# Altium footprint library Theremin_Project1.PcbLib: 37 footprints (part 2 of 3)
Each footprint in its own frame and in the unit in brackets; x right, y up, seen from the top. Pads: shape width x height; smd on the part's side, far side on the other; paste and mask are expansions set on the pad; w line width, h text height; cw(c..) or ccw(c..) is an arc to the next point about the centre after c.
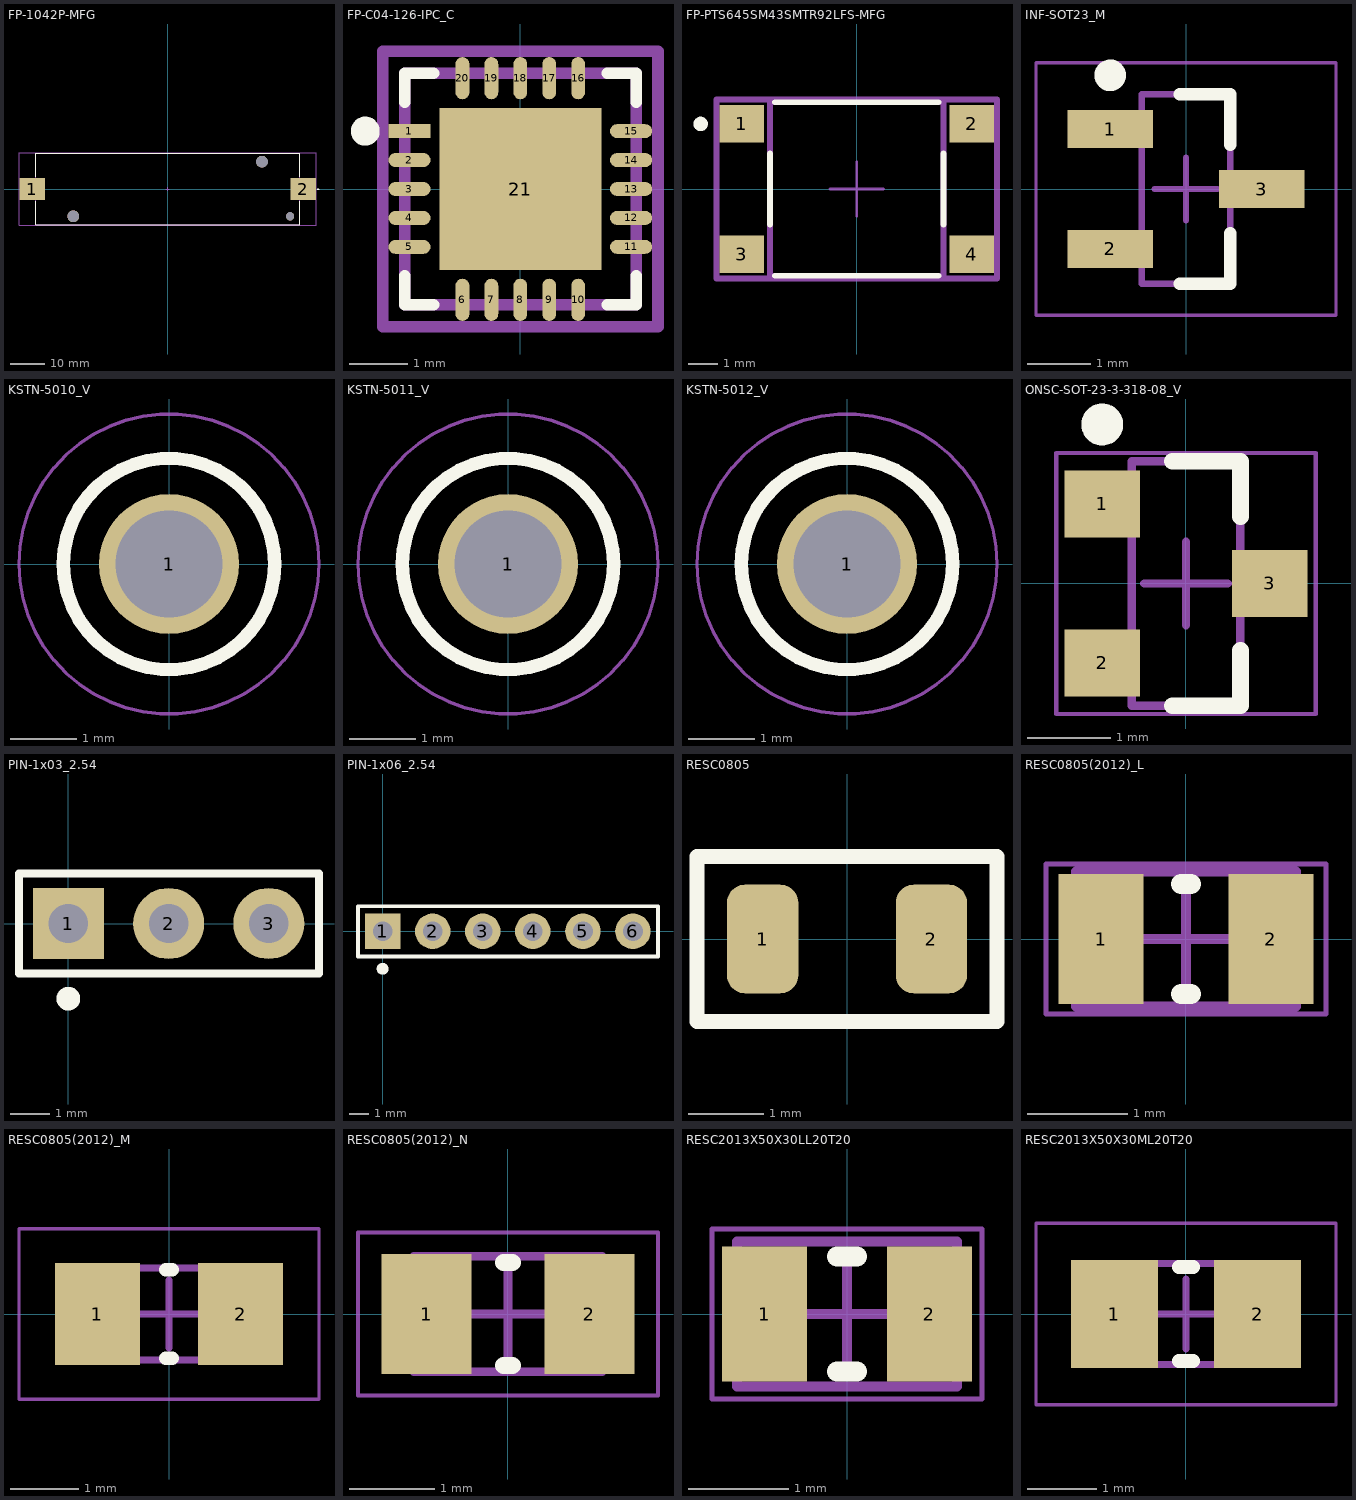
[diagram p1: the footprints below, top view; thin cyan lines are the x and y axes]

## FP-1042P-MFG [mil]
pads (5):
  rect 294x255 smd paste+0 mask+0: 1(-1562.5,0) 2(1562.5,0)
  round 135.83 hole 135.83 unplated paste-39370.1 mask+0: ""(-1087.5,-315) ""(1087.5,315)
  round 94 hole 94 unplated paste-39370.1 mask+0: ""(1411.5,-315)
Top Overlay:
  lines w7.87: -1522,-142.13 -1522,-411.5 1522,-411.5 1522,-142.13 ; -1522,142.13 -1522,411.5 1522,411.5 1522,142.13 ; 1725.39,0 1745.08,0 ; 1735.24,-9.84 1735.24,9.84
Top 3D Body:
  lines w7.87: -1522,-411.5 1522,-411.5 1522,411.5 -1522,411.5 -1522,-411.5
Top Component Center:
  lines w3.94: -19.68,0 19.68,0 ; 0,-19.68 0,19.68
Top Courtyard:
  lines w7.87: -1713.44,-415.44 1713.44,-415.44 1713.44,415.44 -1713.44,415.44 -1713.44,-415.44
Top Assembly:
  lines w7.87: -1713.44,-415.44 1713.44,-415.44 1713.44,415.44 -1713.44,415.44 -1713.44,-415.44
  text ".Designator" at 0,0 h39.37
3D body "Batt_Keystone_1042P_eec.STEP": height 594.88, standoff -135, extent -1692.99,-406.54 1693.01,406.5
3D body "Sanjo NCR18650GA.SLDPRT": height 714.17, standoff -14.17, extent -1230,-363.85 1340.87,363.84

## FP-C04-126-IPC_C [mm]
pads (21):
  rect 0.729x0.239 smd paste+0 mask+0: 1(-1.915,1)
  rrect100% 0.729x0.239 smd paste+0 mask+0: 2(-1.915,0.5) 3(-1.915,0) 4(-1.915,-0.5) 5(-1.915,-1) 11(1.915,-1) 12(1.915,-0.5) 13(1.915,0) 14(1.915,0.5) 15(1.915,1)
  rrect100% 0.239x0.729 smd paste+0 mask+0: 6(-1,-1.915) 7(-0.5,-1.915) 8(0,-1.915) 9(0.5,-1.915) 10(1,-1.915) 16(1,1.915) 17(0.5,1.915) 18(0,1.915) 19(-0.5,1.915) 20(-1,1.915)
  rect 2.8x2.8 smd paste-1000 mask+0: 21(0,0)
Top Overlay:
  circle w0.25: c-2.679,1 r0.125
  lines w0.2: -2,-1.5 -2,-2 -1.5,-2 ; -2,1.5 -2,2 -1.5,2 ; 1.5,-2 2,-2 2,-1.5 ; 1.5,2 2,2 2,1.5
Top Paste:
  rectangle: -0.885,-0.885 0.885,0.885
Top 3D Body:
  lines w0.2: -2,-2 -2,2 2,2 2,-2 -2,-2
Top Component Center:
  lines w0.1: -0.5,0 0.5,0 ; 0,-0.5 0,0.5
Top Courtyard:
  lines w0.2: -2.379,-2.379 -2.379,2.379 2.379,2.379 2.379,-2.379 -2.379,-2.379
Top Assembly:
  lines w0.2: -2.379,-2.379 -2.379,2.379 2.379,2.379 2.379,-2.379 -2.379,-2.379
  text ".Designator" at 0,0.188 h1
3D body "IC_Microchip_MCP2515T-I-ML_eec.STEP": height 1, standoff 0, extent -2,-2 2,2

## FP-PTS645SM43SMTR92LFS-MFG [mm]
pads (4):
  rect 1.55x1.3 smd paste+0 mask+0: 1(-3.975,2.25) 2(3.975,2.25) 3(-3.975,-2.25) 4(3.975,-2.25)
Top Overlay:
  circle w0.25: c-5.4,2.25 r0.125
  lines w0.2: -3,-1.225 -3,1.225 ; -2.825,-3 2.825,-3 ; -2.825,3 2.825,3 ; 3,-1.225 3,1.225
Top 3D Body:
  lines w0.2: -3,-3 3,-3 3,3 -3,3 -3,-3
Top Component Center:
  lines w0.1: -0.93,0 0.93,0 ; 0,-0.93 0,0.93
Top Courtyard:
  lines w0.2: -4.85,-3.1 4.85,-3.1 4.85,3.1 -4.85,3.1 -4.85,-3.1
Top Assembly:
  lines w0.2: -4.85,-3.1 4.85,-3.1 4.85,3.1 -4.85,3.1 -4.85,-3.1
  text ".Designator" at 0,0.188 h1
3D body "PTS641SK25.stp": height 2.5, standoff 0, extent -4.2,-3.3 4.2,3.3

## INF-SOT23_M [mm] "SOT23, 3-Leads, Body 2.9x1.3 mm, Pitch 0.95 mm, IPC Low Density"
height 1.1
pads (3):
  rect 1.35x0.6 smd: 1(-1.2,0.95) 2(-1.2,-0.95) 3(1.2,0)
Top Overlay:
  circle w0.25: c-1.2,1.8 r0.125
  lines w0.2: -0.1,-1.5 0.7,-1.5 0.7,-0.7 ; -0.1,1.5 0.7,1.5 0.7,0.7
Mechanical 13:
  lines w0.1: -0.7,-1.5 0.7,-1.5 0.7,1.5 -0.7,1.5 -0.7,-1.5
Mechanical 15:
  lines w0.05: -2.375,-2 2.375,-2 2.375,2 -2.375,2 -2.375,-2
  lines w0.1: -0.5,0 0.5,0 ; 0,-0.5 0,0.5
3D body: height 1.1, standoff 0.1, extent -0.7,-1.5 0.7,1.5

## KSTN-5010_V [mm] "Test Point, Dia 3.17mm"
height 8.28
pads (1):
  round 2.1 hole 1.6: 1(0,0)
Top Overlay:
  circle w0.2: c0,0 r1.585
Mechanical 13:
  circle w0.1: c0,0 r1.585
Mechanical 15:
  circle w0.05: c0,0 r2.25
  lines w0.1: -0.5,0 0.5,0 ; 0,-0.5 0,0.5
3D body "keystone-PN5010.STEP": height 8.13, standoff -3.17, extent -1.587,-1.587 1.588,1.588

## KSTN-5011_V [mm] "Test Point, Dia 3.17mm"
height 8.28
pads (1):
  round 2.1 hole 1.6: 1(0,0)
Top Overlay:
  circle w0.2: c0,0 r1.585
Mechanical 13:
  circle w0.1: c0,0 r1.585
Mechanical 15:
  circle w0.05: c0,0 r2.25
  lines w0.1: -0.5,0 0.5,0 ; 0,-0.5 0,0.5
3D body "keystone-PN5011.STEP": height 8.13, standoff -3.17, extent -1.587,-1.587 1.588,1.588

## KSTN-5012_V [mm] "Test Point, Dia 3.17mm"
height 8.28
pads (1):
  round 2.1 hole 1.6: 1(0,0)
Top Overlay:
  circle w0.2: c0,0 r1.585
Mechanical 13:
  circle w0.1: c0,0 r1.585
Mechanical 15:
  circle w0.05: c0,0 r2.25
  lines w0.1: -0.5,0 0.5,0 ; 0,-0.5 0,0.5
3D body "keystone-PN5012.Stp": height 8.13, standoff -3.17, extent -1.587,-1.587 1.588,1.588

## ONSC-SOT-23-3-318-08_V [mm] "SOT23, 3-Leads, Body 2.92x1.3mm, Pitch 0.95mm"
height 1.11
pads (3):
  rect 0.9x0.8 smd: 1(-1,0.95) 2(-1,-0.95) 3(1,0)
Top Overlay:
  circle w0.25: c-1,1.9 r0.125
  lines w0.2: -0.165,-1.46 0.65,-1.46 0.65,-0.8 ; -0.165,1.46 0.65,1.46 0.65,0.8
Mechanical 13:
  lines w0.1: -0.65,-1.46 -0.65,1.46 0.65,1.46 0.65,-1.46 -0.65,-1.46
Mechanical 15:
  lines w0.05: -1.55,-1.56 -1.55,1.56 1.55,1.56 1.55,-1.56 -1.55,-1.56
  lines w0.1: -0.5,0 0.5,0 ; 0,-0.5 0,0.5
3D body: height 1.11, standoff 0.01, extent -0.65,-1.46 0.65,1.46

## PIN-1x03_2.54 [mm] ".025 SQ Post Terminal Strip Assembly, 1x3 Pins, Vertical, 2.54mm Pitch, Male"
height 8.58
pads (3):
  rect 1.8x1.8 hole 1: 1(0,0)
  round 1.8 hole 1: 2(2.54,0) 3(5.08,0)
Top Overlay:
  circle w0.3: c0,-1.905 r0.15
  lines w0.2: -1.25,-1.27 -1.25,1.27 6.35,1.27 6.35,-1.27 -1.25,-1.27
Top Assembly:
  text ".Comment" at -1.25,2 h1.2
3D body "DS1021-1x3SF11.stp": height 8.6, standoff -3, extent -1.27,-1.27 6.35,1.27

## PIN-1x06_2.54 [mm] ".025 SQ Post Terminal Strip Assembly, 1x6 Pins, Vertical, 2.54mm Pitch, Male"
height 8.58
pads (6):
  rect 1.8x1.8 hole 1: 1(0,0)
  round 1.8 hole 1: 2(2.54,0) 3(5.08,0) 4(7.62,0) 5(10.16,0) 6(12.7,0)
Top Overlay:
  circle w0.3: c0,-1.905 r0.15
  lines w0.2: -1.25,-1.27 13.97,-1.27 13.97,1.27 -1.25,1.27 -1.25,-1.27
Top Assembly:
  text ".Comment" at -1.25,2 h1.2
3D body "DS1021-1x6SF11.stp": height 8.6, standoff -3, extent -1.27,-1.27 13.97,1.27

## RESC0805 [mm] "Chip Resistor, 2-Leads, Body 2.00x1.25mm, IPC Low Density"
height 0.6
pads (2):
  rrect50% 0.95x1.45 smd: 1(-1.125,0) 2(1.125,0)
Top Overlay:
  lines w0.2: -2,-1.1 -2,1.1 2,1.1 2,-1.1 -2,-1.1
Top Assembly:
  text ".Comment" at 2.5,-0.6 h1
3D body: height 0.6, standoff 0, extent 0.85,-0.675 1.05,0.675
3D body: height 0.6, standoff 0, extent -1.05,-0.675 -0.85,0.675
3D body: height 0.6, standoff 0, extent -0.85,-0.675 0.85,0.675

## RESC0805(2012)_L [mm] "Chip Resistor, Body 2.0x1.3mm, IPC High Density"
height 0.7
pads (2):
  rect 0.85x1.3 smd: 1(-0.85,0) 2(0.85,0)
Top Overlay:
  lines w0.2: -0.05,-0.55 0.05,-0.55 ; -0.05,0.55 0.05,0.55
Mechanical 13:
  lines w0.1: -1.1,-0.675 -1.1,0.675 1.1,0.675 1.1,-0.675 -1.1,-0.675
Mechanical 15:
  lines w0.05: -1.4,-0.75 -1.4,0.75 1.4,0.75 1.4,-0.75 -1.4,-0.75
  lines w0.1: -0.5,0 0.5,0 ; 0,-0.5 0,0.5
3D body: height 0.7, standoff 0, extent -1.1,-0.675 -0.68,0.675
3D body: height 0.7, standoff 0, extent -0.68,-0.675 0.68,0.675
3D body: height 0.7, standoff 0, extent 0.68,-0.675 1.1,0.675

## RESC0805(2012)_M [mm] "Chip Resistor, Body 2.0x1.3mm, IPC Low Density"
height 0.7
pads (2):
  rect 1.25x1.5 smd: 1(-1.05,0) 2(1.05,0)
Top Overlay:
  lines w0.2: -0.05,-0.65 0.05,-0.65 ; -0.05,0.65 0.05,0.65
Mechanical 13:
  lines w0.1: -1.1,-0.675 -1.1,0.675 1.1,0.675 1.1,-0.675 -1.1,-0.675
Mechanical 15:
  lines w0.05: -2.2,-1.25 -2.2,1.25 2.2,1.25 2.2,-1.25 -2.2,-1.25
  lines w0.1: -0.5,0 0.5,0 ; 0,-0.5 0,0.5
3D body: height 0.7, standoff 0, extent -1.1,-0.675 -0.68,0.675
3D body: height 0.7, standoff 0, extent -0.68,-0.675 0.68,0.675
3D body: height 0.7, standoff 0, extent 0.68,-0.675 1.1,0.675

## RESC0805(2012)_N [mm] "Chip Resistor, Body 2.0x1.3mm, IPC Medium Density"
height 0.7
pads (2):
  rect 1.05x1.4 smd: 1(-0.95,0) 2(0.95,0)
Top Overlay:
  lines w0.2: -0.05,-0.6 0.05,-0.6 ; -0.05,0.6 0.05,0.6
Mechanical 13:
  lines w0.1: -1.1,-0.675 1.1,-0.675 1.1,0.675 -1.1,0.675 -1.1,-0.675
Mechanical 15:
  lines w0.05: -1.75,-0.95 1.75,-0.95 1.75,0.95 -1.75,0.95 -1.75,-0.95
  lines w0.1: -0.5,0 0.5,0 ; 0,-0.5 0,0.5
3D body: height 0.7, standoff 0, extent -1.1,-0.675 -0.68,0.675
3D body: height 0.7, standoff 0, extent -0.68,-0.675 0.68,0.675
3D body: height 0.7, standoff 0, extent 0.68,-0.675 1.1,0.675

## RESC2013X50X30LL20T20 [mm] "Chip Resistor, 2-Leads, Body 2.00x1.25mm, IPC High Density"
height 0.5
pads (2):
  rect 0.85x1.35 smd: 1(-0.825,0) 2(0.825,0)
Top Overlay:
  lines w0.2: -0.1,-0.575 0.1,-0.575 ; -0.1,0.575 0.1,0.575
Mechanical 13:
  lines w0.1: -1.1,-0.725 1.1,-0.725 1.1,0.725 -1.1,0.725 -1.1,-0.725
Mechanical 15:
  lines w0.05: -1.35,-0.85 1.35,-0.85 1.35,0.85 -1.35,0.85 -1.35,-0.85
  lines w0.1: -0.5,0 0.5,0 ; 0,-0.5 0,0.5
3D body: height 0.5, standoff 0, extent 0.8,-0.725 1.1,0.725
3D body: height 0.5, standoff 0, extent -1.1,-0.725 -0.8,0.725
3D body: height 0.5, standoff 0, extent -0.8,-0.725 0.8,0.725

## RESC2013X50X30ML20T20 [mm] "Chip Resistor, 2-Leads, Body 2.00x1.25mm, IPC Low Density"
height 0.5
pads (2):
  rect 1.25x1.55 smd: 1(-1.025,0) 2(1.025,0)
Top Overlay:
  lines w0.2: -0.1,-0.675 0.1,-0.675 ; -0.1,0.675 0.1,0.675
Mechanical 13:
  lines w0.1: -1.1,-0.725 -1.1,0.725 1.1,0.725 1.1,-0.725 -1.1,-0.725
Mechanical 15:
  lines w0.05: -2.15,-1.3 -2.15,1.3 2.15,1.3 2.15,-1.3 -2.15,-1.3
  lines w0.1: -0.5,0 0.5,0 ; 0,-0.5 0,0.5
3D body: height 0.5, standoff 0, extent -0.8,-0.725 0.8,0.725
3D body: height 0.5, standoff 0, extent -1.1,-0.725 -0.8,0.725
3D body: height 0.5, standoff 0, extent 0.8,-0.725 1.1,0.725